# EAGLE library part OKL-T_6-W12N-C (library OKL-T_6-W12N-C)
MURATA POWER SOLUTIONS - OKL-T/6-W12N-C - DC/DC CONVERTER, 30W, ADJ OUTPUT Source: Datasheet <http://www.mouser.com/ds/2/281/okl-t6-w12-21493.pdf>
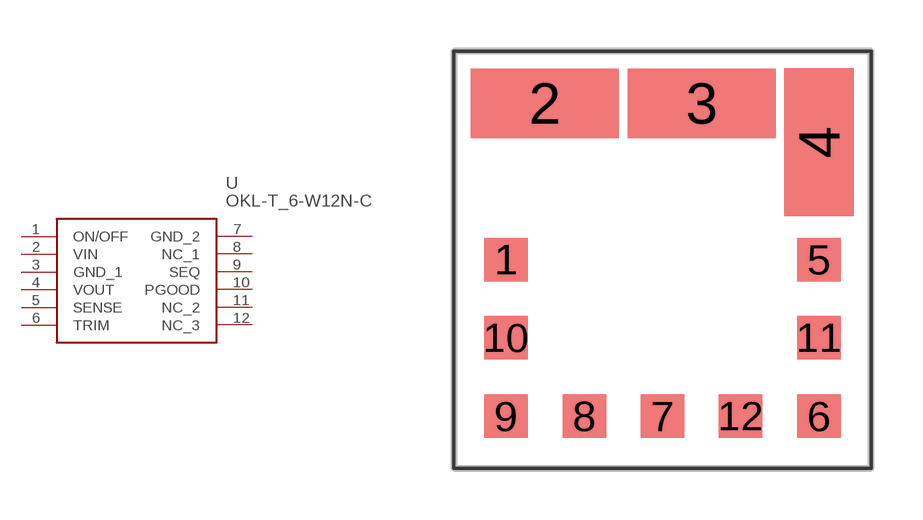
[diagram p0: symbol with the pads of OKL-T/3-W5; footprint OKL-T/3-W5]

Designator prefix U

## OKL-T_6-W12N-C (Description: MURATA POWER SOLUTIONS - OKL-T/6-W12N-C - DC/DC CONVERTER, 30W, ADJ OUTPUT; Height: mm; Manufacturer_Name: Murata Electronics; Manufacturer_Part_Number: OKL-T/6-W12N-C; Mouser_Part_Number: 580-OKL-T/6-W12N-C; Mouser_Price-Stock: https://www.mouser.com/Search/Refine.aspx?Keyword=580-OKL-T%2F6-W12N-C; RS_Part_Number: 1736944P; RS_Price-Stock: http://uk.rs-online.com/web/p/products/1736944P)  [OKL-T/3-W5]
1  ON/OFF
2  VIN
3  GND_1
4  VOUT
5  SENSE
6  TRIM
7  GND_2
8  NC_1
9  SEQ
10  PGOOD
11  NC_2
12  NC_3

## Footprint OKL-T/3-W5 (pad centres in mm)
OKL-T/3-W5
smd 1.27 x 1.27: 1 -10.67,6.1; 5 -1.52,6.1; 6 -1.52,1.52; 7 -6.09,1.52; 8 -8.38,1.52; 9 -10.67,1.52; 10 -10.67,3.81; 11 -1.52,3.81; 12 -3.81,1.52
smd 4.32 x 2.03: 2 -9.53,10.67; 3 -4.95,10.67
smd 2.03 x 4.32: 4 -1.52,9.53